# Altium footprint library ACTP112.PcbLib: 1 footprints
Each footprint in its own frame and in the unit in brackets; x right, y up, seen from the top. Pads: shape width x height; smd on the part's side, far side on the other; paste and mask are expansions set on the pad; w line width, h text height; cw(c..) or ccw(c..) is an arc to the next point about the centre after c.
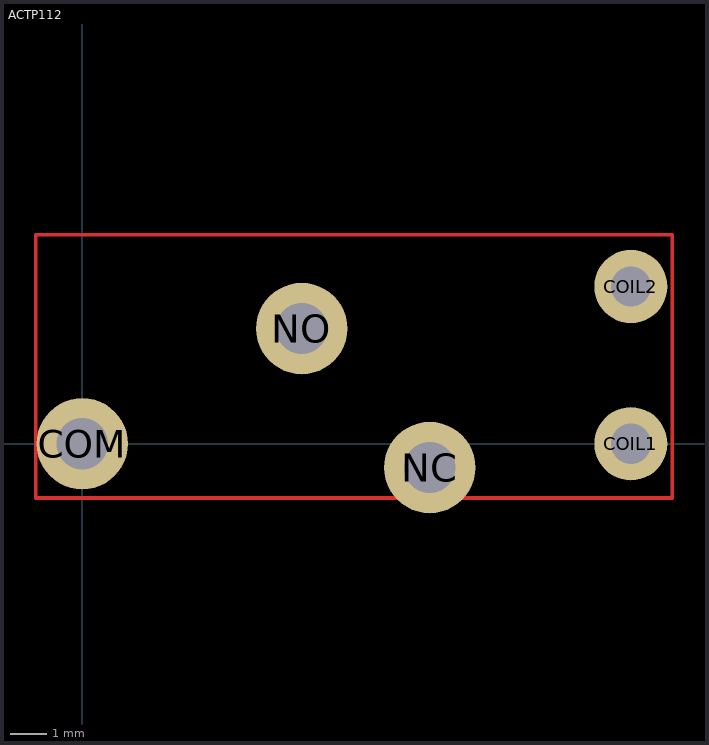
[diagram p0: the footprint, top view; thin cyan lines are the x and y axes]

## ACTP112 [mm] "ACTP112, 12V Relay"
height 13.5
pads (5):
  round 2 hole 1.1: COIL1(15,0) COIL2(15,4.3)
  round 2.5 hole 1.4: COM(0,0) NC(9.5,-0.65) NO(6,3.15)
Top Layer:
  lines w0.1: -1.271,-1.485 -1.271,5.715 16.129,5.715 16.129,-1.485 -1.271,-1.485